# Altium footprint library LED_5mm_red.PcbLib: 1 footprints
Each footprint in its own frame and in the unit in brackets; x right, y up, seen from the top. Pads: shape width x height; smd on the part's side, far side on the other; paste and mask are expansions set on the pad; w line width, h text height; cw(c..) or ccw(c..) is an arc to the next point about the centre after c.
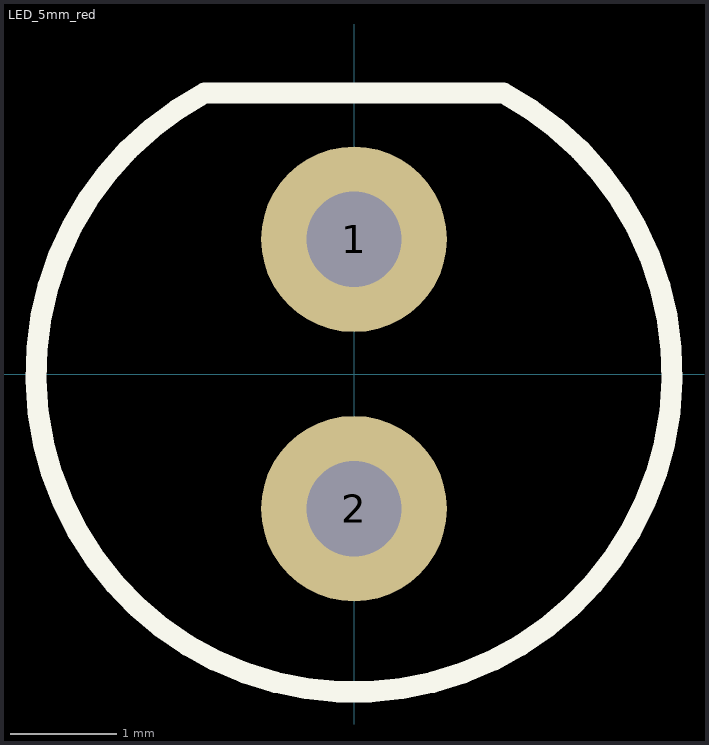
[diagram p0: the footprint, top view; thin cyan lines are the x and y axes]

## LED_5mm_red [mm]
pads (2):
  round 1.75 hole 0.9 unplated: 1(0,1.27) 2(0,-1.27)
Top Overlay:
  lines w0.2: -1.408,2.649 ccw(c0,0) 1.408,2.649 -1.408,2.649
3D body "LED_5mm_red.SLDPRT": height 8.75, standoff -3.45, extent -3,-3 3,2.7